# Altium schematic symbol library TP7660H.SCHLIB: 1 symbol
Pins are listed as number, name and electrical type; pins without a type are passive.

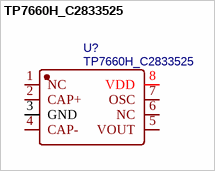
[diagram p0: symbol TP7660H_C2833525]

## TP7660H_C2833525
designator U?
BOM_Manufacturer: TOPPOWER(南京拓微); Contributor: LCSC; BOM_Supplier: LCSC; BOM_Supplier Part: C2833525; BOM_Manufacturer Part: TP7660H; BOM_JLCPCB Part Class: Extended Part; spicePre: U; spiceSymbolName: TP7660H_C2833525
footprint SOIC-8_L4.9-W3.9-P1.27-LS6.0-BL
pins: 1 NC, 2 CAP+, 3 GND, 4 CAP-, 5 VOUT, 6 NC, 7 OSC, 8 VDD